# EAGLE library part TLW-111-05-G-S (library SAMTEC-Txx_By_element14_Batch_1)
CONNECTOR HEADER, 11 WAY, 1ROW
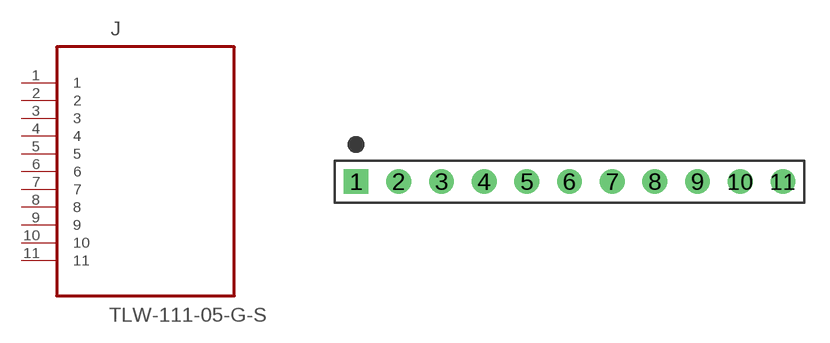
[diagram p181: symbol with the pads of SAMTEC_TLW-111-05-G-S; footprint SAMTEC_TLW-111-05-G-S]

Designator prefix J

## TLW-111-05-G-S (MPN: TLW-111-05-G-S; OC_FARNELL: -; OC_NEWARK: 12P0444; PACKAGE: CONN HEADER 11 POS .100 inch; SUPPLIER: SAMTEC)  [SAMTEC_TLW-111-05-G-S]
1  1  pas
2  2  pas
3  3  pas
4  4  pas
5  5  pas
6  6  pas
7  7  pas
8  8  pas
9  9  pas
10  10  pas
11  11  pas

## Footprint SAMTEC_TLW-111-05-G-S (pad centres in mm)
drill 0.965 square: 1 -25.4,0
drill 0.965: 2 -22.86,0; 3 -20.32,0; 4 -17.78,0; 5 -15.24,0; 6 -12.7,0; 7 -10.16,0; 8 -7.62,0; 9 -5.08,0; 10 -2.54,0; 11 0,0